# EAGLE library part MAX1452 (library rocket)
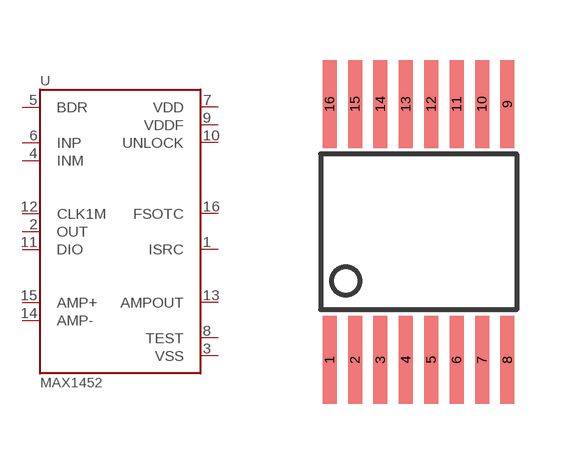
[diagram p0: symbol with the pads of SSOP16; footprint SSOP16]

Designator prefix -

## MAX1452  [SSOP16]
1  ISRC
2  OUT
3  VSS
4  INM
5  BDR
6  INP
7  VDD
8  TEST
9  VDDF
10  UNLOCK
11  DIO
12  CLK1M
13  AMPOUT
14  AMP-
15  AMP+
16  FSOTC

## Footprint SSOP16 (pad centres in mm)
smd 0.35 x 2.2: 1 -2.223,-3.2; 2 -1.587,-3.2; 3 -0.953,-3.2; 4 -0.318,-3.2; 5 0.318,-3.2; 6 0.953,-3.2; 7 1.587,-3.2; 8 2.223,-3.2; 9 2.223,3.2; 10 1.587,3.2; 11 0.953,3.2; 12 0.318,3.2; 13 -0.318,3.2; 14 -0.953,3.2; 15 -1.587,3.2; 16 -2.223,3.2